# EAGLE library part PT2399 (library LITTLEBITS140826)
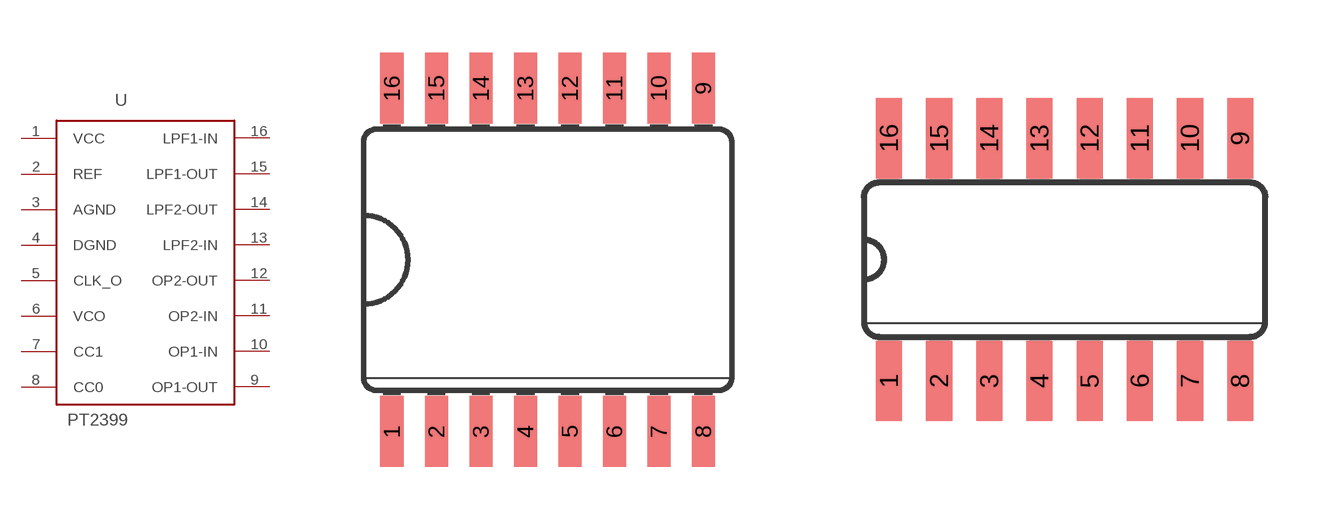
[diagram p42: symbol with the pads of SOIC16(300MIL); footprints SOIC16(300MIL), SO16]

Designator prefix -

## PT2399WIDE  [SOIC16(300MIL)]
1  VCC  pwr
2  REF
3  AGND  pwr
4  DGND  pwr
5  CLK_O
6  VCO
7  CC1
8  CC0
9  OP1-OUT
10  OP1-IN
11  OP2-IN
12  OP2-OUT
13  LPF2-IN
14  LPF2-OUT
15  LPF1-OUT
16  LPF1-IN

## PT2399  [SO16]
Pads as for SOIC16(300MIL)

## Footprint SOIC16(300MIL) (pad centres in mm)
smd 0.66 x 2.032: 1 -4.445,-4.902; 2 -3.175,-4.902; 3 -1.905,-4.902; 4 -0.635,-4.902; 5 0.635,-4.902; 6 1.905,-4.902; 7 3.175,-4.902; 8 4.445,-4.902; 9 4.445,4.902; 10 3.175,4.902; 11 1.905,4.902; 12 0.635,4.902; 13 -0.635,4.902; 14 -1.905,4.902; 15 -3.175,4.902; 16 -4.445,4.902

## Footprint SO16 (pad centres in mm)
Small Outline package 150 mil
smd 0.66 x 2.032: 1 -4.445,-3.073; 2 -3.175,-3.073; 3 -1.905,-3.073; 4 -0.635,-3.073; 5 0.635,-3.073; 6 1.905,-3.073; 7 3.175,-3.073; 8 4.445,-3.073; 9 4.445,3.073; 10 3.175,3.073; 11 1.905,3.073; 12 0.635,3.073; 13 -0.635,3.073; 14 -1.905,3.073; 15 -3.175,3.073; 16 -4.445,3.073